# EAGLE library part BLE112-A (library Neel)
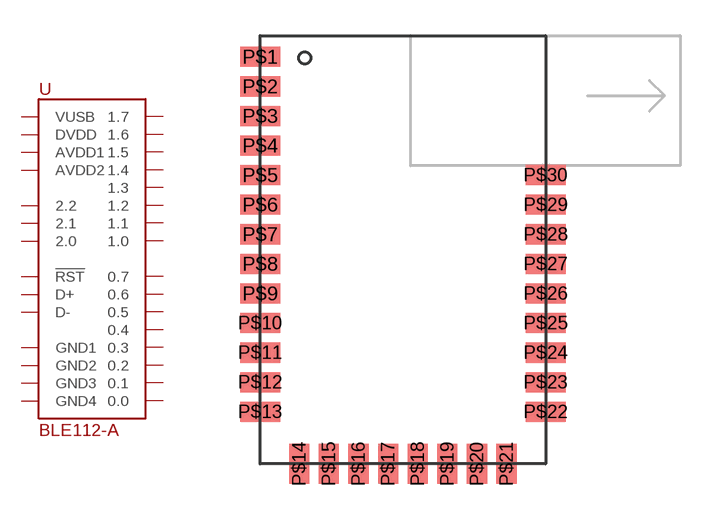
[diagram p65: symbol with the pads of BLE112-A; footprint BLE112-A]

Designator prefix -

## BLE112-A  [BLE112-A]
P$1  GND1
P$2  AVDD1
P$3  AVDD2
P$4  2.2
P$5  2.1
P$6  2.0
P$7  1.7
P$8  1.6
P$9  VUSB
P$10  GND2
P$11  D+
P$12  D-
P$13  1.5
P$14  1.4
P$15  1.3
P$16  1.2
P$17  1.1
P$18  1.0
P$19  0.7
P$20  DVDD
P$21  GND3
P$22  0.6
P$23  0.5
P$24  0.4
P$25  0.3
P$26  0.2
P$27  0.1
P$28  0.0
P$29  !RST
P$30  GND4

## Footprint BLE112-A (pad centres in mm)
smd 1.7 x 0.85: P$1 -6.025,8.15; P$2 -6.025,6.9; P$3 -6.025,5.65; P$4 -6.025,4.4; P$5 -6.025,3.15; P$6 -6.025,1.9; P$7 -6.025,0.65; P$8 -6.025,-0.6; P$9 -6.025,-1.85; P$10 -6.025,-3.1; P$11 -6.025,-4.35; P$12 -6.025,-5.6; P$13 -6.025,-6.85; P$22 6.025,-6.85; P$23 6.025,-5.6; P$24 6.025,-4.35; P$25 6.025,-3.1; P$26 6.025,-1.85; P$27 6.025,-0.6; P$28 6.025,0.65; P$29 6.025,1.9; P$30 6.025,3.15
smd 0.85 x 1.7: P$14 -4.375,-9.05; P$15 -3.125,-9.05; P$16 -1.875,-9.05; P$17 -0.625,-9.05; P$18 0.625,-9.05; P$19 1.875,-9.05; P$20 3.125,-9.05; P$21 4.375,-9.05